# Altium schematic symbol library REF3025.SchLib: 1 symbol
Pins are listed as number, name and electrical type; pins without a type are passive.

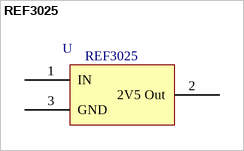
[diagram p0: symbol REF3025]

## REF3025
designator U  value REF3025  (hidden comment: *)
Manufacturer Code: REF3025AIDBZTG4; Manufacturer: Texas Instruments; Voltage: 2V5; Farnell Code: 1234684; Unit Price: 2,47 €
footprint SOT23
pins: 1 IN, 2 2V5 Out, 3 GND